# Altium footprint library 0039281063.PcbLib: 1 footprints
Each footprint in its own frame and in the unit in brackets; x right, y up, seen from the top. Pads: shape width x height; smd on the part's side, far side on the other; paste and mask are expansions set on the pad; w line width, h text height; cw(c..) or ccw(c..) is an arc to the next point about the centre after c.
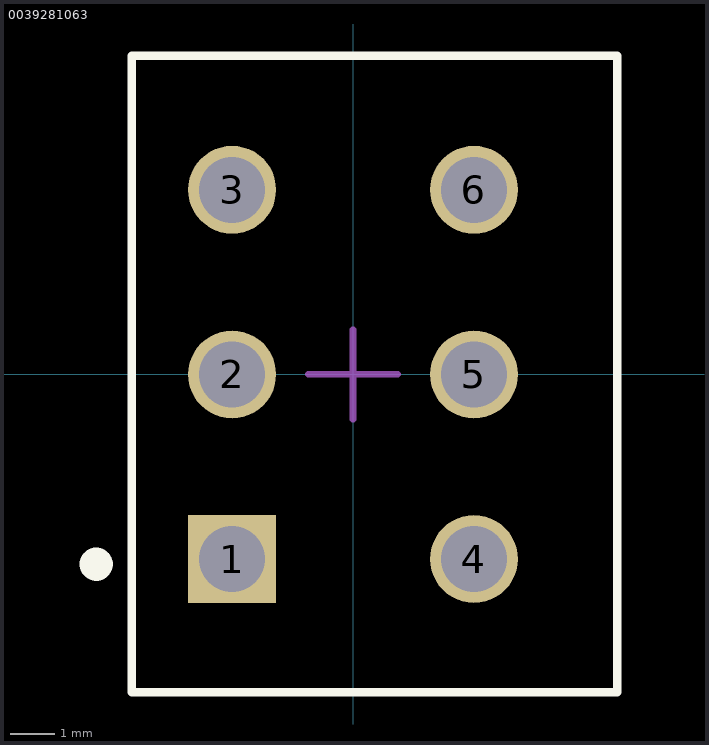
[diagram p0: the footprint, top view; thin cyan lines are the x and y axes]

## 0039281063 [mm]
pads (6):
  rect 2x2 hole 1.5 mask+0.051: 1(-2.75,-4.2)
  round 2 hole 1.5 mask+0.051: 2(-2.75,0) 3(-2.75,4.2) 4(2.75,-4.2) 5(2.75,0) 6(2.75,4.2)
Top Overlay:
  lines w0.2: -3.131,7.248 6.013,7.248 6.013,-7.23 -5.036,-7.23 -5.036,7.248 -1.05,7.248
  lines w0.5: -5.722,-4.278 ccw(c-5.842,-4.318) -5.715,-4.318
Mechanical 13 (Mech13):
  lines w0.15: -5.036,-7.23 -5.036,7.248 6.013,7.248 6.013,-7.23 -5.036,-7.23
Mechanical 15:
  lines w0.15: 0,-1.016 0,0 ; 0,0 1.016,0 0,0 ; 0,0 0,1.016 0,0 ; 0,0 -1.016,0 0,0
3D body "0039281063.step": height 12.81, standoff -3.49, extent -5.01,-7.288 5.99,7.309